# Altium footprint library TQFP.PcbLib: 51 footprints (part 3 of 4)
Each footprint in its own frame and in the unit in brackets; x right, y up, seen from the top. Pads: shape width x height; smd on the part's side, far side on the other; paste and mask are expansions set on the pad; w line width, h text height; cw(c..) or ccw(c..) is an arc to the next point about the centre after c.
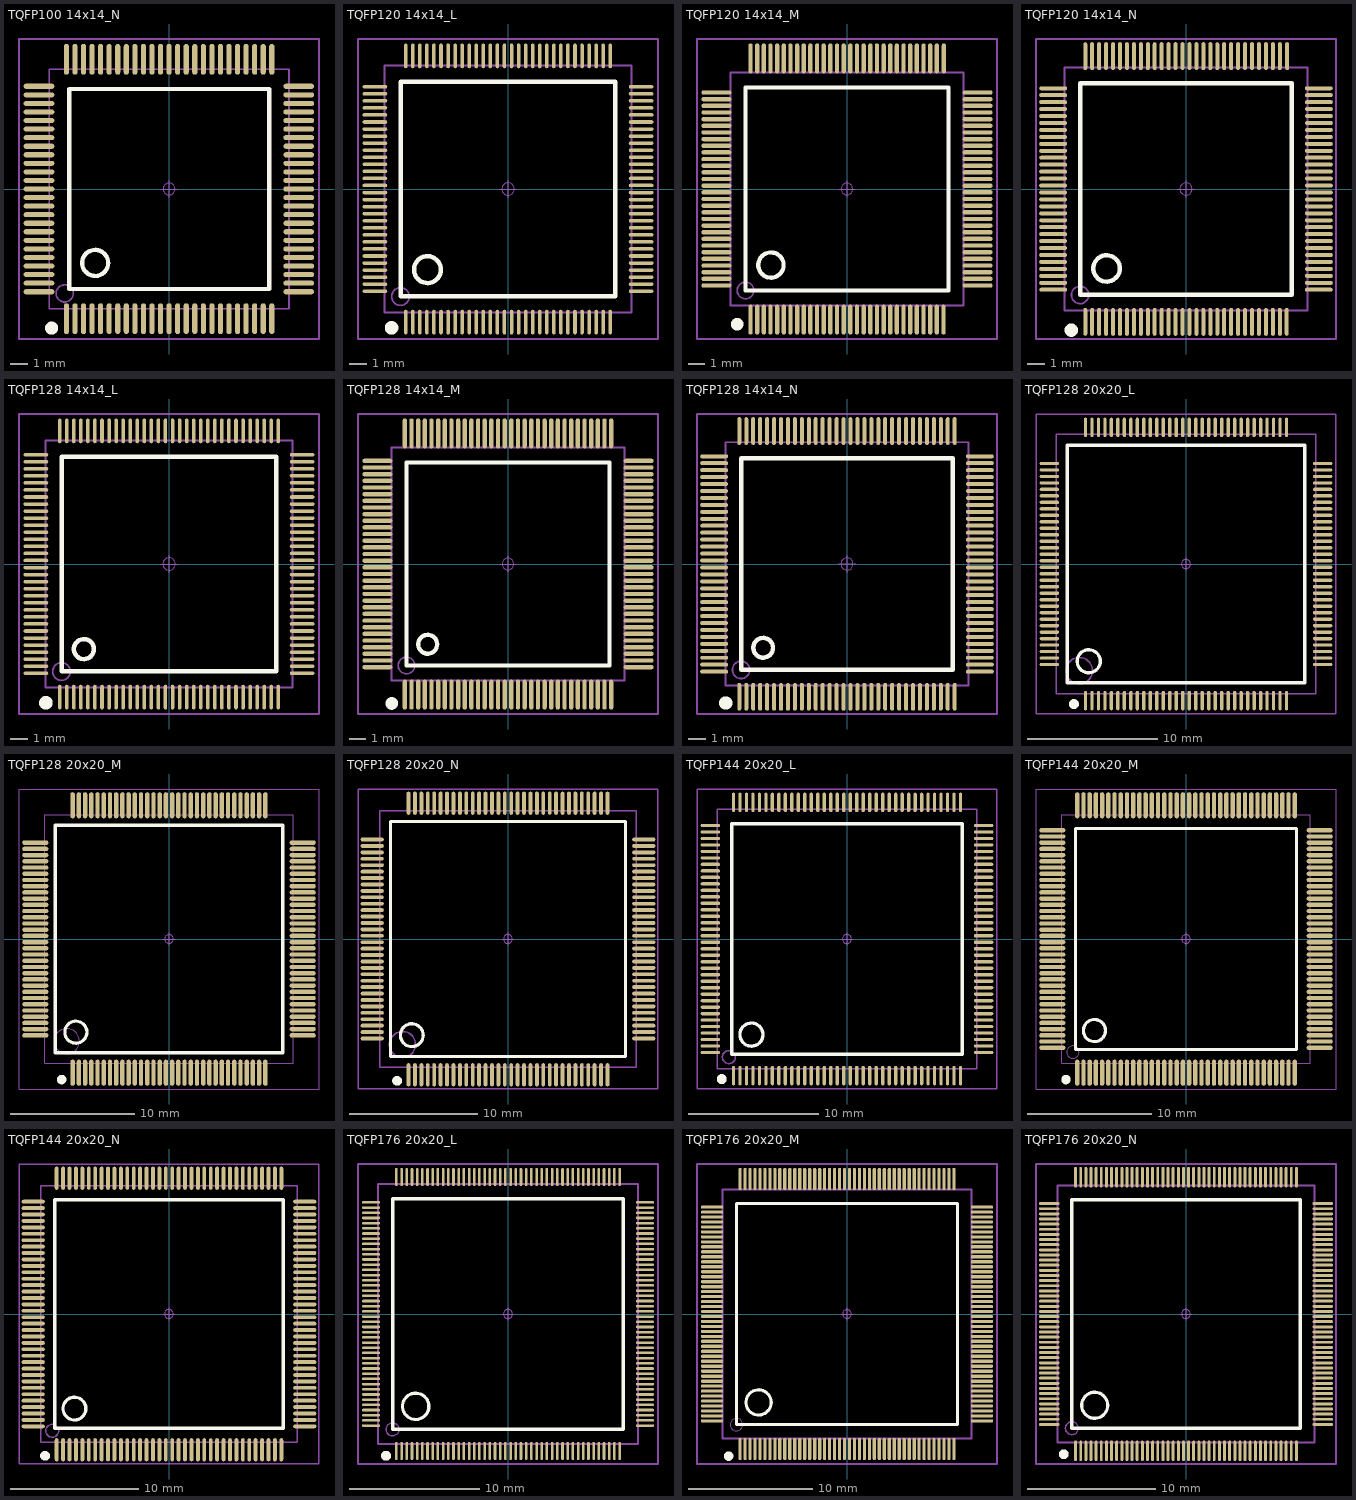
[diagram p2: the footprints below, top view; thin cyan lines are the x and y axes]

## TQFP100 14x14_N [mm] "100脚，体宽：14x14mm, 脚距：0.5mm"
pads (100):
  oval 0.3x1.8 smd: 1(-5.995,-7.575) 2(-5.495,-7.575) 3(-4.995,-7.575) 4(-4.495,-7.575) 5(-3.995,-7.575) 6(-3.495,-7.575) 7(-2.995,-7.575) 8(-2.495,-7.575) 9(-1.995,-7.575) 10(-1.495,-7.575) 11(-0.995,-7.575) 12(-0.495,-7.575) 13(0.005,-7.575) 14(0.505,-7.575) 15(1.005,-7.575) 16(1.505,-7.575) 17(2.005,-7.575) 18(2.505,-7.575) 19(3.005,-7.575) 20(3.505,-7.575) 21(4.005,-7.575) 22(4.505,-7.575) 23(5.005,-7.575) 24(5.505,-7.575) 25(6.005,-7.575) 51(6.005,7.575) 52(5.505,7.575) 53(5.005,7.575) 54(4.505,7.575) 55(4.005,7.575) 56(3.505,7.575) 57(3.005,7.575) 58(2.505,7.575) 59(2.005,7.575) 60(1.505,7.575) 61(1.005,7.575) 62(0.505,7.575) 63(0.005,7.575) 64(-0.495,7.575) 65(-0.995,7.575) 66(-1.495,7.575) 67(-1.995,7.575) 68(-2.495,7.575) 69(-2.995,7.575) 70(-3.495,7.575) 71(-3.995,7.575) 72(-4.495,7.575) 73(-4.995,7.575) 74(-5.495,7.575) 75(-5.995,7.575)
  oval 1.8x0.3 smd: 26(7.58,-6) 27(7.58,-5.5) 28(7.58,-5) 29(7.58,-4.5) 30(7.58,-4) 31(7.58,-3.5) 32(7.58,-3) 33(7.58,-2.5) 34(7.58,-2) 35(7.58,-1.5) 36(7.58,-1) 37(7.58,-0.5) 38(7.58,0) 39(7.58,0.5) 40(7.58,1) 41(7.58,1.5) 42(7.58,2) 43(7.58,2.5) 44(7.58,3) 45(7.58,3.5) 46(7.58,4) 47(7.58,4.5) 48(7.58,5) 49(7.58,5.5) 50(7.58,6) 76(-7.595,6) 77(-7.595,5.5) 78(-7.595,5) 79(-7.595,4.5) 80(-7.595,4) 81(-7.595,3.5) 82(-7.595,3) 83(-7.595,2.5) 84(-7.595,2) 85(-7.595,1.5) 86(-7.595,1) 87(-7.595,0.5) 88(-7.595,0) 89(-7.595,-0.5) 90(-7.595,-1) 91(-7.595,-1.5) 92(-7.595,-2) 93(-7.595,-2.5) 94(-7.595,-3) 95(-7.595,-3.5) 96(-7.595,-4) 97(-7.595,-4.5) 98(-7.595,-5) 99(-7.595,-5.5) 100(-7.595,-6)
Top Overlay:
  circle w0.254: c-4.313,-4.318 r0.762
  circle w0.508: c-6.858,-8.128 r0.127
  lines w0.254: -5.837,-5.842 5.847,-5.842 5.847,5.842 -5.837,5.842 -5.837,-5.842
Mechanical 13:
  circle w0.1: c-6.095,-6.1 r0.5
  lines w0.1: -6.995,-7 7.005,-7 7.005,7 -6.995,7 -6.995,-7
Mechanical 15:
  circle w0.05: c0.005,0 r0.35
  lines w0.05: -0.495,0 0.505,0 ; 0.005,-0.5 0.005,0.5
  lines w0.1: -8.763,-8.763 8.763,-8.763 8.763,8.763 -8.763,8.763 -8.763,-8.763
3D body: height 1.05, standoff -0.01, extent -7.997,-8.002 8.007,8.002

## TQFP120 14x14_L [mm] "120脚，体宽：14x14mm, 脚距：0.4mm"
pads (120):
  oval 0.2x1.4 smd: 1(-5.8,-7.549) 2(-5.4,-7.549) 3(-5,-7.549) 4(-4.6,-7.549) 5(-4.2,-7.549) 6(-3.8,-7.549) 7(-3.4,-7.549) 8(-3,-7.549) 9(-2.6,-7.549) 10(-2.2,-7.549) 11(-1.8,-7.549) 12(-1.4,-7.549) 13(-1,-7.549) 14(-0.6,-7.549) 15(-0.2,-7.549) 16(0.2,-7.549) 17(0.6,-7.549) 18(1,-7.549) 19(1.4,-7.549) 20(1.8,-7.549) 21(2.2,-7.549) 22(2.6,-7.549) 23(3,-7.549) 24(3.4,-7.549) 25(3.8,-7.549) 26(4.2,-7.549) 27(4.6,-7.549) 28(5,-7.549) 29(5.4,-7.549) 30(5.8,-7.549) 61(5.8,7.549) 62(5.4,7.549) 63(5,7.549) 64(4.6,7.549) 65(4.2,7.549) 66(3.8,7.549) 67(3.4,7.549) 68(3,7.549) 69(2.6,7.549) 70(2.2,7.549) 71(1.8,7.549) 72(1.4,7.549) 73(1,7.549) 74(0.6,7.549) 75(0.2,7.549) 76(-0.2,7.549) 77(-0.6,7.549) 78(-1,7.549) 79(-1.4,7.549) 80(-1.8,7.549) 81(-2.2,7.549) 82(-2.6,7.549) 83(-3,7.549) 84(-3.4,7.549) 85(-3.8,7.549) 86(-4.2,7.549) 87(-4.6,7.549) 88(-5,7.549) 89(-5.4,7.549) 90(-5.8,7.549)
  oval 1.4x0.2 smd: 31(7.549,-5.8) 32(7.549,-5.4) 33(7.549,-5) 34(7.549,-4.6) 35(7.549,-4.2) 36(7.549,-3.8) 37(7.549,-3.4) 38(7.549,-3) 39(7.549,-2.6) 40(7.549,-2.2) 41(7.549,-1.8) 42(7.549,-1.4) 43(7.549,-1) 44(7.549,-0.6) 45(7.549,-0.2) 46(7.549,0.2) 47(7.549,0.6) 48(7.549,1) 49(7.549,1.4) 50(7.549,1.8) 51(7.549,2.2) 52(7.549,2.6) 53(7.549,3) 54(7.549,3.4) 55(7.549,3.8) 56(7.549,4.2) 57(7.549,4.6) 58(7.549,5) 59(7.549,5.4) 60(7.549,5.8) 91(-7.549,5.8) 92(-7.549,5.4) 93(-7.549,5) 94(-7.549,4.6) 95(-7.549,4.2) 96(-7.549,3.8) 97(-7.549,3.4) 98(-7.549,3) 99(-7.549,2.6) 100(-7.549,2.2) 101(-7.549,1.8) 102(-7.549,1.4) 103(-7.549,1) 104(-7.549,0.6) 105(-7.549,0.2) 106(-7.549,-0.2) 107(-7.549,-0.6) 108(-7.549,-1) 109(-7.549,-1.4) 110(-7.549,-1.8) 111(-7.549,-2.2) 112(-7.549,-2.6) 113(-7.549,-3) 114(-7.549,-3.4) 115(-7.549,-3.8) 116(-7.549,-4.2) 117(-7.549,-4.6) 118(-7.549,-5) 119(-7.549,-5.4) 120(-7.549,-5.8)
Top Overlay:
  circle w0.254: c-4.572,-4.572 r0.762
  circle w0.508: c-6.604,-7.874 r0.127
  lines w0.254: -6.096,-6.096 -6.096,6.096 6.096,6.096 6.096,-6.096 -6.096,-6.096
Mechanical 13:
  circle w0.1: c-6.1,-6.1 r0.5
  lines w0.1: -7,-7 -7,7 7,7 7,-7 -7,-7
Mechanical 15:
  circle w0.05: c0,0 r0.35
  lines w0.05: -0.5,0 0.5,0 ; 0,-0.5 0,0.5
  lines w0.1: -8.509,-8.509 -8.509,8.509 8.509,8.509 8.509,-8.509 -8.509,-8.509
3D body: height 1.05, standoff -0.01, extent -8.002,-8.002 8.002,8.002

## TQFP120 14x14_M [mm] "120脚，体宽：14x14mm, 脚距：0.4mm"
pads (120):
  oval 0.26x1.8 smd: 1(-5.8,-7.854) 2(-5.4,-7.854) 3(-5,-7.854) 4(-4.6,-7.854) 5(-4.2,-7.854) 6(-3.8,-7.854) 7(-3.4,-7.854) 8(-3,-7.854) 9(-2.6,-7.854) 10(-2.2,-7.854) 11(-1.8,-7.854) 12(-1.4,-7.854) 13(-1,-7.854) 14(-0.6,-7.854) 15(-0.2,-7.854) 16(0.2,-7.854) 17(0.6,-7.854) 18(1,-7.854) 19(1.4,-7.854) 20(1.8,-7.854) 21(2.2,-7.854) 22(2.6,-7.854) 23(3,-7.854) 24(3.4,-7.854) 25(3.8,-7.854) 26(4.2,-7.854) 27(4.6,-7.854) 28(5,-7.854) 29(5.4,-7.854) 30(5.8,-7.854) 61(5.825,7.854) 62(5.4,7.854) 63(5,7.854) 64(4.6,7.854) 65(4.2,7.854) 66(3.8,7.854) 67(3.4,7.854) 68(3,7.854) 69(2.6,7.854) 70(2.2,7.854) 71(1.8,7.854) 72(1.4,7.854) 73(1,7.854) 74(0.6,7.854) 75(0.2,7.854) 76(-0.2,7.854) 77(-0.6,7.854) 78(-1,7.854) 79(-1.4,7.854) 80(-1.8,7.854) 81(-2.2,7.854) 82(-2.6,7.854) 83(-3,7.854) 84(-3.4,7.854) 85(-3.8,7.854) 86(-4.2,7.854) 87(-4.6,7.854) 88(-5,7.854) 89(-5.4,7.854) 90(-5.8,7.854)
  oval 1.8x0.26 smd: 31(7.854,-5.8) 32(7.854,-5.4) 33(7.854,-5) 34(7.854,-4.6) 35(7.854,-4.2) 36(7.854,-3.8) 37(7.854,-3.4) 38(7.854,-3) 39(7.854,-2.6) 40(7.854,-2.2) 41(7.854,-1.8) 42(7.854,-1.4) 43(7.854,-1) 44(7.854,-0.6) 45(7.854,-0.2) 46(7.854,0.2) 47(7.854,0.6) 48(7.854,1) 49(7.854,1.4) 50(7.854,1.8) 51(7.854,2.2) 52(7.854,2.6) 53(7.854,3) 54(7.854,3.4) 55(7.854,3.8) 56(7.854,4.2) 57(7.854,4.6) 58(7.854,5) 59(7.854,5.4) 60(7.854,5.8) 91(-7.854,5.8) 92(-7.854,5.4) 93(-7.854,5) 94(-7.854,4.6) 95(-7.854,4.2) 96(-7.854,3.8) 97(-7.854,3.4) 98(-7.854,3) 99(-7.854,2.6) 100(-7.854,2.2) 101(-7.854,1.8) 102(-7.854,1.4) 103(-7.854,1) 104(-7.854,0.6) 105(-7.854,0.2) 106(-7.854,-0.2) 107(-7.854,-0.6) 108(-7.854,-1) 109(-7.854,-1.4) 110(-7.854,-1.8) 111(-7.854,-2.2) 112(-7.854,-2.6) 113(-7.854,-3) 114(-7.854,-3.4) 115(-7.854,-3.8) 116(-7.854,-4.2) 117(-7.854,-4.6) 118(-7.854,-5) 119(-7.854,-5.4) 120(-7.854,-5.8)
Top Overlay:
  circle w0.508: c-6.604,-8.128 r0.127
  circle w0.254: c-4.572,-4.572 r0.762
  lines w0.254: -6.096,-6.096 6.096,-6.096 6.096,6.096 -6.096,6.096 -6.096,-6.096
Mechanical 13:
  circle w0.1: c-6.1,-6.1 r0.5
  lines w0.1: -7,-7 7,-7 7,7 -7,7 -7,-7
Mechanical 15:
  circle w0.05: c0,0 r0.35
  lines w0.05: -0.5,0 0.5,0 ; 0,-0.5 0,0.5
  lines w0.1: -9.017,-9.017 9.017,-9.017 9.017,9.017 -9.017,9.017 -9.017,-9.017
3D body: height 1.05, standoff -0.01, extent -8.002,-8.002 8.002,8.002

## TQFP120 14x14_N [mm] "120脚，体宽：14x14mm, 脚距：0.4mm"
pads (120):
  oval 0.23x1.6 smd: 1(-5.8,-7.651) 2(-5.4,-7.651) 3(-5,-7.651) 4(-4.6,-7.651) 5(-4.2,-7.651) 6(-3.8,-7.651) 7(-3.4,-7.651) 8(-3,-7.651) 9(-2.6,-7.651) 10(-2.2,-7.651) 11(-1.8,-7.651) 12(-1.4,-7.651) 13(-1,-7.651) 14(-0.6,-7.651) 15(-0.2,-7.651) 16(0.2,-7.651) 17(0.6,-7.651) 18(1,-7.651) 19(1.4,-7.651) 20(1.8,-7.651) 21(2.2,-7.651) 22(2.6,-7.651) 23(3,-7.651) 24(3.4,-7.651) 25(3.8,-7.651) 26(4.2,-7.651) 27(4.6,-7.651) 28(5,-7.651) 29(5.4,-7.651) 30(5.8,-7.651) 61(5.825,7.651) 62(5.4,7.651) 63(5,7.651) 64(4.6,7.651) 65(4.2,7.651) 66(3.8,7.651) 67(3.4,7.651) 68(3,7.651) 69(2.6,7.651) 70(2.2,7.651) 71(1.8,7.651) 72(1.4,7.651) 73(1,7.651) 74(0.6,7.651) 75(0.2,7.651) 76(-0.2,7.651) 77(-0.6,7.651) 78(-1,7.651) 79(-1.4,7.651) 80(-1.8,7.651) 81(-2.2,7.651) 82(-2.6,7.651) 83(-3,7.651) 84(-3.4,7.651) 85(-3.8,7.651) 86(-4.2,7.651) 87(-4.6,7.651) 88(-5,7.651) 89(-5.4,7.651) 90(-5.8,7.651)
  oval 1.6x0.23 smd: 31(7.651,-5.8) 32(7.651,-5.4) 33(7.651,-5) 34(7.651,-4.6) 35(7.651,-4.2) 36(7.651,-3.8) 37(7.651,-3.4) 38(7.651,-3) 39(7.651,-2.6) 40(7.651,-2.2) 41(7.651,-1.8) 42(7.651,-1.4) 43(7.651,-1) 44(7.651,-0.6) 45(7.651,-0.2) 46(7.651,0.2) 47(7.651,0.6) 48(7.651,1) 49(7.651,1.4) 50(7.651,1.8) 51(7.651,2.2) 52(7.651,2.6) 53(7.651,3) 54(7.651,3.4) 55(7.651,3.8) 56(7.651,4.2) 57(7.651,4.6) 58(7.651,5) 59(7.651,5.4) 60(7.651,5.8) 91(-7.651,5.8) 92(-7.651,5.4) 93(-7.651,5) 94(-7.651,4.6) 95(-7.651,4.2) 96(-7.651,3.8) 97(-7.651,3.4) 98(-7.651,3) 99(-7.651,2.6) 100(-7.651,2.2) 101(-7.651,1.8) 102(-7.651,1.4) 103(-7.651,1) 104(-7.651,0.6) 105(-7.651,0.2) 106(-7.651,-0.2) 107(-7.651,-0.6) 108(-7.651,-1) 109(-7.651,-1.4) 110(-7.651,-1.8) 111(-7.651,-2.2) 112(-7.651,-2.6) 113(-7.651,-3) 114(-7.651,-3.4) 115(-7.651,-3.8) 116(-7.651,-4.2) 117(-7.651,-4.6) 118(-7.651,-5) 119(-7.651,-5.4) 120(-7.651,-5.8)
Top Overlay:
  circle w0.254: c-4.572,-4.572 r0.762
  circle w0.508: c-6.604,-8.128 r0.127
  lines w0.254: -6.096,-6.096 -6.096,6.096 6.096,6.096 6.096,-6.096 -6.096,-6.096
Mechanical 13:
  circle w0.1: c-6.1,-6.1 r0.5
  lines w0.1: -7,-7 -7,7 7,7 7,-7 -7,-7
Mechanical 15:
  circle w0.05: c0,0 r0.35
  lines w0.05: -0.5,0 0.5,0 ; 0,-0.5 0,0.5
  lines w0.1: -8.636,-8.636 -8.636,8.636 8.636,8.636 8.636,-8.636 -8.636,-8.636
3D body: height 1.05, standoff -0.01, extent -8.002,-8.002 8.002,8.002

## TQFP128 14x14_L [mm] "128脚，体宽：14x14mm, 脚距：0.4mm"
pads (128):
  oval 0.2x1.4 smd: 1(-6.2,-7.549) 2(-5.8,-7.549) 3(-5.4,-7.549) 4(-5,-7.549) 5(-4.6,-7.549) 6(-4.2,-7.549) 7(-3.8,-7.549) 8(-3.4,-7.549) 9(-3,-7.549) 10(-2.6,-7.549) 11(-2.2,-7.549) 12(-1.8,-7.549) 13(-1.4,-7.549) 14(-1,-7.549) 15(-0.6,-7.549) 16(-0.2,-7.549) 17(0.2,-7.549) 18(0.6,-7.549) 19(1,-7.549) 20(1.4,-7.549) 21(1.8,-7.549) 22(2.2,-7.549) 23(2.6,-7.549) 24(3,-7.549) 25(3.4,-7.549) 26(3.8,-7.549) 27(4.2,-7.549) 28(4.6,-7.549) 29(5,-7.549) 30(5.4,-7.549) 31(5.8,-7.549) 32(6.2,-7.549) 65(6.2,7.549) 66(5.8,7.549) 67(5.4,7.549) 68(5,7.549) 69(4.6,7.549) 70(4.2,7.549) 71(3.8,7.549) 72(3.4,7.549) 73(3,7.549) 74(2.6,7.549) 75(2.2,7.549) 76(1.8,7.549) 77(1.4,7.549) 78(1,7.549) 79(0.6,7.549) 80(0.2,7.549) 81(-0.2,7.549) 82(-0.6,7.549) 83(-1,7.549) 84(-1.4,7.549) 85(-1.8,7.549) 86(-2.2,7.549) 87(-2.6,7.549) 88(-3,7.549) 89(-3.4,7.549) 90(-3.8,7.549) 91(-4.2,7.549) 92(-4.6,7.549) 93(-5,7.549) 94(-5.4,7.549) 95(-5.8,7.549) 96(-6.2,7.549)
  oval 1.4x0.2 smd: 33(7.549,-6.2) 34(7.549,-5.8) 35(7.549,-5.4) 36(7.549,-5) 37(7.549,-4.6) 38(7.549,-4.2) 39(7.549,-3.8) 40(7.549,-3.4) 41(7.549,-3) 42(7.549,-2.6) 43(7.549,-2.2) 44(7.549,-1.8) 45(7.549,-1.4) 46(7.549,-1) 47(7.549,-0.6) 48(7.549,-0.2) 49(7.549,0.2) 50(7.549,0.6) 51(7.549,1) 52(7.549,1.4) 53(7.549,1.8) 54(7.549,2.2) 55(7.549,2.6) 56(7.549,3) 57(7.549,3.4) 58(7.549,3.8) 59(7.549,4.2) 60(7.549,4.6) 61(7.549,5) 62(7.549,5.4) 63(7.549,5.8) 64(7.549,6.2) 97(-7.549,6.2) 98(-7.549,5.8) 99(-7.549,5.4) 100(-7.549,5) 101(-7.549,4.6) 102(-7.549,4.2) 103(-7.549,3.8) 104(-7.549,3.4) 105(-7.549,3) 106(-7.549,2.6) 107(-7.549,2.2) 108(-7.549,1.8) 109(-7.549,1.4) 110(-7.549,1) 111(-7.549,0.6) 112(-7.549,0.2) 113(-7.549,-0.2) 114(-7.549,-0.6) 115(-7.549,-1) 116(-7.549,-1.4) 117(-7.549,-1.8) 118(-7.549,-2.2) 119(-7.549,-2.6) 120(-7.549,-3) 121(-7.549,-3.4) 122(-7.549,-3.8) 123(-7.549,-4.2) 124(-7.549,-4.6) 125(-7.549,-5) 126(-7.549,-5.4) 127(-7.549,-5.8) 128(-7.549,-6.2)
Top Overlay:
  circle w0.254: c-4.826,-4.826 r0.568
  circle w0.508: c-6.985,-7.874 r0.127
  lines w0.254: -6.096,-6.096 -6.096,6.096 6.096,6.096 6.096,-6.096 -6.096,-6.096
Mechanical 13:
  circle w0.1: c-6.1,-6.1 r0.5
  lines w0.1: -7,-7 7,-7 7,7 -7,7 -7,-7
Mechanical 15:
  circle w0.05: c0,0 r0.35
  lines w0.05: -0.5,0 0.5,0 ; 0,-0.5 0,0.5
  lines w0.1: -8.509,-8.509 -8.509,8.509 8.509,8.509 8.509,-8.509 -8.509,-8.509
3D body: height 1.05, standoff -0.01, extent -8.002,-8.002 8.002,8.002

## TQFP128 14x14_M [mm] "128脚，体宽：14x14mm, 脚距：0.4mm"
pads (128):
  oval 0.26x1.8 smd: 1(-6.2,-7.854) 2(-5.8,-7.854) 3(-5.4,-7.854) 4(-5,-7.854) 5(-4.6,-7.854) 6(-4.2,-7.854) 7(-3.8,-7.854) 8(-3.4,-7.854) 9(-3,-7.854) 10(-2.6,-7.854) 11(-2.2,-7.854) 12(-1.8,-7.854) 13(-1.4,-7.854) 14(-1,-7.854) 15(-0.6,-7.854) 16(-0.2,-7.854) 17(0.2,-7.854) 18(0.6,-7.854) 19(1,-7.854) 20(1.4,-7.854) 21(1.8,-7.854) 22(2.2,-7.854) 23(2.6,-7.854) 24(3,-7.854) 25(3.4,-7.854) 26(3.8,-7.854) 27(4.2,-7.854) 28(4.6,-7.854) 29(5,-7.854) 30(5.4,-7.854) 31(5.8,-7.854) 32(6.2,-7.854) 65(6.2,7.854) 66(5.8,7.854) 67(5.4,7.854) 68(5,7.854) 69(4.6,7.854) 70(4.2,7.854) 71(3.8,7.854) 72(3.4,7.854) 73(3,7.854) 74(2.6,7.854) 75(2.2,7.854) 76(1.8,7.854) 77(1.4,7.854) 78(1,7.854) 79(0.6,7.854) 80(0.2,7.854) 81(-0.2,7.854) 82(-0.6,7.854) 83(-1,7.854) 84(-1.4,7.854) 85(-1.8,7.854) 86(-2.2,7.854) 87(-2.6,7.854) 88(-3,7.854) 89(-3.4,7.854) 90(-3.8,7.854) 91(-4.2,7.854) 92(-4.6,7.854) 93(-5,7.854) 94(-5.4,7.854) 95(-5.8,7.854) 96(-6.2,7.854)
  oval 1.8x0.26 smd: 33(7.854,-6.2) 34(7.854,-5.8) 35(7.854,-5.4) 36(7.854,-5) 37(7.854,-4.6) 38(7.854,-4.2) 39(7.854,-3.8) 40(7.854,-3.4) 41(7.854,-3) 42(7.854,-2.6) 43(7.854,-2.2) 44(7.854,-1.8) 45(7.854,-1.4) 46(7.854,-1) 47(7.854,-0.6) 48(7.854,-0.2) 49(7.854,0.2) 50(7.854,0.6) 51(7.854,1) 52(7.854,1.4) 53(7.854,1.8) 54(7.854,2.2) 55(7.854,2.6) 56(7.854,3) 57(7.854,3.4) 58(7.854,3.8) 59(7.854,4.2) 60(7.854,4.6) 61(7.854,5) 62(7.854,5.4) 63(7.854,5.8) 64(7.854,6.2) 97(-7.854,6.2) 98(-7.854,5.8) 99(-7.854,5.4) 100(-7.854,5) 101(-7.854,4.6) 102(-7.854,4.2) 103(-7.854,3.8) 104(-7.854,3.4) 105(-7.854,3) 106(-7.854,2.6) 107(-7.854,2.2) 108(-7.854,1.8) 109(-7.854,1.4) 110(-7.854,1) 111(-7.854,0.6) 112(-7.854,0.2) 113(-7.854,-0.2) 114(-7.854,-0.6) 115(-7.854,-1) 116(-7.854,-1.4) 117(-7.854,-1.8) 118(-7.854,-2.2) 119(-7.854,-2.6) 120(-7.854,-3) 121(-7.854,-3.4) 122(-7.854,-3.8) 123(-7.854,-4.2) 124(-7.854,-4.6) 125(-7.854,-5) 126(-7.854,-5.4) 127(-7.854,-5.8) 128(-7.854,-6.2)
Top Overlay:
  circle w0.254: c-4.826,-4.826 r0.568
  circle w0.508: c-6.985,-8.382 r0.127
  lines w0.254: -6.096,-6.096 -6.096,6.096 6.096,6.096 6.096,-6.096 -6.096,-6.096
Mechanical 13:
  circle w0.1: c-6.1,-6.1 r0.5
  lines w0.1: -7,-7 7,-7 7,7 -7,7 -7,-7
Mechanical 15:
  circle w0.05: c0,0 r0.35
  lines w0.05: -0.5,0 0.5,0 ; 0,-0.5 0,0.5
  lines w0.1: -9.017,-9.017 -9.017,9.017 9.017,9.017 9.017,-9.017 -9.017,-9.017
3D body: height 1.05, standoff -0.01, extent -8.002,-8.002 8.002,8.002

## TQFP128 14x14_N [mm] "128脚，体宽：14x14mm, 脚距：0.4mm"
pads (128):
  oval 0.23x1.6 smd: 1(-6.2,-7.648) 2(-5.8,-7.648) 3(-5.4,-7.648) 4(-5,-7.648) 5(-4.6,-7.648) 6(-4.2,-7.648) 7(-3.8,-7.648) 8(-3.4,-7.648) 9(-3,-7.648) 10(-2.6,-7.648) 11(-2.2,-7.648) 12(-1.8,-7.648) 13(-1.4,-7.648) 14(-1,-7.648) 15(-0.6,-7.648) 16(-0.2,-7.648) 17(0.2,-7.648) 18(0.6,-7.648) 19(1,-7.648) 20(1.4,-7.648) 21(1.8,-7.648) 22(2.2,-7.648) 23(2.6,-7.648) 24(3,-7.648) 25(3.4,-7.648) 26(3.8,-7.648) 27(4.2,-7.648) 28(4.6,-7.648) 29(5,-7.648) 30(5.4,-7.648) 31(5.8,-7.648) 32(6.2,-7.648) 65(6.2,7.653) 66(5.8,7.653) 67(5.4,7.653) 68(5,7.653) 69(4.6,7.653) 70(4.2,7.653) 71(3.8,7.653) 72(3.4,7.653) 73(3,7.653) 74(2.6,7.653) 75(2.2,7.653) 76(1.8,7.653) 77(1.4,7.653) 78(1,7.653) 79(0.6,7.653) 80(0.2,7.653) 81(-0.2,7.653) 82(-0.6,7.653) 83(-1,7.653) 84(-1.4,7.653) 85(-1.8,7.653) 86(-2.2,7.653) 87(-2.6,7.653) 88(-3,7.653) 89(-3.4,7.653) 90(-3.8,7.653) 91(-4.2,7.653) 92(-4.6,7.653) 93(-5,7.653) 94(-5.4,7.653) 95(-5.8,7.653) 96(-6.2,7.653)
  oval 1.6x0.23 smd: 33(7.651,-6.198) 34(7.651,-5.798) 35(7.651,-5.398) 36(7.651,-4.998) 37(7.651,-4.598) 38(7.651,-4.198) 39(7.651,-3.798) 40(7.651,-3.398) 41(7.651,-2.998) 42(7.651,-2.598) 43(7.651,-2.198) 44(7.651,-1.798) 45(7.651,-1.398) 46(7.651,-0.998) 47(7.651,-0.598) 48(7.651,-0.198) 49(7.651,0.202) 50(7.651,0.602) 51(7.651,1.002) 52(7.651,1.402) 53(7.651,1.802) 54(7.651,2.202) 55(7.651,2.602) 56(7.651,3.002) 57(7.651,3.402) 58(7.651,3.802) 59(7.651,4.202) 60(7.651,4.602) 61(7.651,5.002) 62(7.651,5.402) 63(7.651,5.802) 64(7.651,6.202) 97(-7.651,6.202) 98(-7.651,5.802) 99(-7.651,5.402) 100(-7.651,5.002) 101(-7.651,4.602) 102(-7.651,4.202) 103(-7.651,3.802) 104(-7.651,3.402) 105(-7.651,3.002) 106(-7.651,2.602) 107(-7.651,2.202) 108(-7.651,1.802) 109(-7.651,1.402) 110(-7.651,1.002) 111(-7.651,0.602) 112(-7.651,0.202) 113(-7.651,-0.198) 114(-7.651,-0.598) 115(-7.651,-0.998) 116(-7.651,-1.398) 117(-7.651,-1.798) 118(-7.651,-2.198) 119(-7.651,-2.598) 120(-7.651,-2.998) 121(-7.651,-3.398) 122(-7.651,-3.798) 123(-7.651,-4.198) 124(-7.651,-4.598) 125(-7.651,-4.998) 126(-7.651,-5.398) 127(-7.651,-5.798) 128(-7.651,-6.198)
Top Overlay:
  circle w0.254: c-4.826,-4.824 r0.568
  circle w0.508: c-6.985,-8.001 r0.127
  lines w0.254: -6.096,-6.094 -6.096,6.098 6.096,6.098 6.096,-6.094 -6.096,-6.094
Mechanical 13:
  circle w0.1: c-6.1,-6.098 r0.5
  lines w0.1: -7,-6.998 7,-6.998 7,7.002 -7,7.002 -7,-6.998
Mechanical 15:
  circle w0.05: c0,0.002 r0.35
  lines w0.05: -0.5,0.002 0.5,0.002 ; 0,-0.498 0,0.502
  lines w0.1: -8.636,-8.636 -8.636,8.636 8.636,8.636 8.636,-8.636 -8.636,-8.636
3D body: height 1.05, standoff -0.01, extent -8.002,-8 8.002,8.005

## TQFP128 20x20_L [mm] "128脚，体宽：20x20mm, 脚距：0.5mm"
pads (128):
  oval 0.25x1.5 smd: 1(-7.75,-10.525) 2(-7.25,-10.525) 3(-6.75,-10.525) 4(-6.25,-10.525) 5(-5.75,-10.525) 6(-5.25,-10.525) 7(-4.75,-10.525) 8(-4.25,-10.525) 9(-3.75,-10.525) 10(-3.25,-10.525) 11(-2.75,-10.525) 12(-2.25,-10.525) 13(-1.75,-10.525) 14(-1.25,-10.525) 15(-0.75,-10.525) 16(-0.25,-10.525) 17(0.25,-10.525) 18(0.75,-10.525) 19(1.25,-10.525) 20(1.75,-10.525) 21(2.25,-10.525) 22(2.75,-10.525) 23(3.25,-10.525) 24(3.75,-10.525) 25(4.25,-10.525) 26(4.75,-10.525) 27(5.25,-10.525) 28(5.75,-10.525) 29(6.25,-10.525) 30(6.75,-10.525) 31(7.25,-10.525) 32(7.75,-10.525) 65(7.75,10.525) 66(7.25,10.525) 67(6.75,10.525) 68(6.25,10.525) 69(5.75,10.525) 70(5.25,10.525) 71(4.75,10.525) 72(4.25,10.525) 73(3.75,10.525) 74(3.25,10.525) 75(2.75,10.525) 76(2.25,10.525) 77(1.75,10.525) 78(1.25,10.525) 79(0.75,10.525) 80(0.25,10.525) 81(-0.25,10.525) 82(-0.75,10.525) 83(-1.25,10.525) 84(-1.75,10.525) 85(-2.25,10.525) 86(-2.75,10.525) 87(-3.25,10.525) 88(-3.75,10.525) 89(-4.25,10.525) 90(-4.75,10.525) 91(-5.25,10.525) 92(-5.75,10.525) 93(-6.25,10.525) 94(-6.75,10.525) 95(-7.25,10.525) 96(-7.75,10.525)
  oval 1.5x0.25 smd: 33(10.525,-7.75) 34(10.525,-7.25) 35(10.525,-6.75) 36(10.525,-6.25) 37(10.525,-5.75) 38(10.525,-5.25) 39(10.525,-4.75) 40(10.525,-4.25) 41(10.525,-3.75) 42(10.525,-3.25) 43(10.525,-2.75) 44(10.525,-2.25) 45(10.525,-1.75) 46(10.525,-1.25) 47(10.525,-0.75) 48(10.525,-0.25) 49(10.525,0.25) 50(10.525,0.75) 51(10.525,1.25) 52(10.525,1.75) 53(10.525,2.25) 54(10.525,2.75) 55(10.525,3.25) 56(10.525,3.75) 57(10.525,4.25) 58(10.525,4.75) 59(10.525,5.25) 60(10.525,5.75) 61(10.525,6.25) 62(10.525,6.75) 63(10.525,7.25) 64(10.525,7.75) 97(-10.525,7.75) 98(-10.525,7.25) 99(-10.525,6.75) 100(-10.525,6.25) 101(-10.525,5.75) 102(-10.525,5.25) 103(-10.525,4.75) 104(-10.525,4.25) 105(-10.525,3.75) 106(-10.525,3.25) 107(-10.525,2.75) 108(-10.525,2.25) 109(-10.525,1.75) 110(-10.525,1.25) 111(-10.525,0.75) 112(-10.525,0.25) 113(-10.525,-0.25) 114(-10.525,-0.75) 115(-10.525,-1.25) 116(-10.525,-1.75) 117(-10.525,-2.25) 118(-10.525,-2.75) 119(-10.525,-3.25) 120(-10.525,-3.75) 121(-10.525,-4.25) 122(-10.525,-4.75) 123(-10.525,-5.25) 124(-10.525,-5.75) 125(-10.525,-6.25) 126(-10.525,-6.75) 127(-10.525,-7.25) 128(-10.525,-7.75)
Top Overlay:
  circle w0.254: c-7.493,-7.493 r0.889
  circle w0.508: c-8.636,-10.795 r0.127
  lines w0.254: -9.144,-9.144 -9.144,9.144 9.144,9.144 9.144,-9.144 -9.144,-9.144
Mechanical 13:
  circle w0.1: c-8.222,-8.222 r1.016
  lines w0.1: -10,-10 10,-10 10,10 -10,10 -10,-10
Mechanical 15:
  circle w0.05: c0,0 r0.35
  lines w0.05: -0.5,0 0.5,0 ; 0,-0.5 0,0.5
  lines w0.1: -11.557,-11.557 -11.557,11.557 11.557,11.557 11.557,-11.557 -11.557,-11.557
3D body: height 1.05, standoff -0.01, extent -11.002,-11.002 11.002,11.002

## TQFP128 20x20_M [mm] "128脚，体宽：20x20mm, 脚距：0.5mm"
pads (128):
  oval 0.35x2.1 smd: 1(-7.75,-10.754) 2(-7.25,-10.754) 3(-6.75,-10.754) 4(-6.25,-10.754) 5(-5.75,-10.754) 6(-5.25,-10.754) 7(-4.75,-10.754) 8(-4.25,-10.754) 9(-3.75,-10.754) 10(-3.25,-10.754) 11(-2.75,-10.754) 12(-2.25,-10.754) 13(-1.75,-10.754) 14(-1.25,-10.754) 15(-0.75,-10.754) 16(-0.25,-10.754) 17(0.25,-10.754) 18(0.75,-10.754) 19(1.25,-10.754) 20(1.75,-10.754) 21(2.25,-10.754) 22(2.75,-10.754) 23(3.25,-10.754) 24(3.75,-10.754) 25(4.25,-10.754) 26(4.75,-10.754) 27(5.25,-10.754) 28(5.75,-10.754) 29(6.25,-10.754) 30(6.75,-10.754) 31(7.25,-10.754) 32(7.75,-10.754) 65(7.75,10.754) 66(7.25,10.754) 67(6.75,10.754) 68(6.25,10.754) 69(5.75,10.754) 70(5.25,10.754) 71(4.75,10.754) 72(4.25,10.754) 73(3.75,10.754) 74(3.25,10.754) 75(2.75,10.754) 76(2.25,10.754) 77(1.75,10.754) 78(1.25,10.754) 79(0.75,10.754) 80(0.25,10.754) 81(-0.25,10.754) 82(-0.75,10.754) 83(-1.25,10.754) 84(-1.75,10.754) 85(-2.25,10.754) 86(-2.75,10.754) 87(-3.25,10.754) 88(-3.75,10.754) 89(-4.25,10.754) 90(-4.75,10.754) 91(-5.25,10.754) 92(-5.75,10.754) 93(-6.25,10.754) 94(-6.75,10.754) 95(-7.25,10.754) 96(-7.75,10.754)
  oval 2.1x0.35 smd: 33(10.754,-7.75) 34(10.754,-7.25) 35(10.754,-6.75) 36(10.754,-6.25) 37(10.754,-5.75) 38(10.754,-5.25) 39(10.754,-4.75) 40(10.754,-4.25) 41(10.754,-3.75) 42(10.754,-3.25) 43(10.754,-2.75) 44(10.754,-2.25) 45(10.754,-1.75) 46(10.754,-1.25) 47(10.754,-0.75) 48(10.754,-0.25) 49(10.754,0.25) 50(10.754,0.75) 51(10.754,1.25) 52(10.754,1.75) 53(10.754,2.25) 54(10.754,2.75) 55(10.754,3.25) 56(10.754,3.75) 57(10.754,4.25) 58(10.754,4.75) 59(10.754,5.25) 60(10.754,5.75) 61(10.754,6.25) 62(10.754,6.75) 63(10.754,7.25) 64(10.754,7.75) 97(-10.754,7.75) 98(-10.754,7.25) 99(-10.754,6.75) 100(-10.754,6.25) 101(-10.754,5.75) 102(-10.754,5.25) 103(-10.754,4.75) 104(-10.754,4.25) 105(-10.754,3.75) 106(-10.754,3.25) 107(-10.754,2.75) 108(-10.754,2.25) 109(-10.754,1.75) 110(-10.754,1.25) 111(-10.754,0.75) 112(-10.754,0.25) 113(-10.754,-0.25) 114(-10.754,-0.75) 115(-10.754,-1.25) 116(-10.754,-1.75) 117(-10.754,-2.25) 118(-10.754,-2.75) 119(-10.754,-3.25) 120(-10.754,-3.75) 121(-10.754,-4.25) 122(-10.754,-4.75) 123(-10.754,-5.25) 124(-10.754,-5.75) 125(-10.754,-6.25) 126(-10.754,-6.75) 127(-10.754,-7.25) 128(-10.754,-7.75)
Top Overlay:
  circle w0.508: c-8.636,-11.303 r0.127
  circle w0.254: c-7.493,-7.493 r0.889
  lines w0.254: -9.144,-9.144 9.144,-9.144 9.144,9.144 -9.144,9.144 -9.144,-9.144
Mechanical 13:
  circle w0.1: c-8.222,-8.222 r1.016
  lines w0.1: -10,-10 -10,10 10,10 10,-10 -10,-10
Mechanical 15:
  circle w0.05: c0,0 r0.35
  lines w0.05: -0.5,0 0.5,0 ; 0,-0.5 0,0.5
  lines w0.1: -12.065,-12.065 12.065,-12.065 12.065,12.065 -12.065,12.065 -12.065,-12.065
3D body: height 1.05, standoff -0.01, extent -11.002,-11.002 11.002,11.002

## TQFP128 20x20_N [mm] "128脚，体宽：20x20mm, 脚距：0.5mm"
pads (128):
  oval 0.3x1.8 smd: 1(-7.75,-10.576) 2(-7.25,-10.576) 3(-6.75,-10.576) 4(-6.25,-10.576) 5(-5.75,-10.576) 6(-5.25,-10.576) 7(-4.75,-10.576) 8(-4.25,-10.576) 9(-3.75,-10.576) 10(-3.25,-10.576) 11(-2.75,-10.576) 12(-2.25,-10.576) 13(-1.75,-10.576) 14(-1.25,-10.576) 15(-0.75,-10.576) 16(-0.25,-10.576) 17(0.25,-10.576) 18(0.75,-10.576) 19(1.25,-10.576) 20(1.75,-10.576) 21(2.25,-10.576) 22(2.75,-10.576) 23(3.25,-10.576) 24(3.75,-10.576) 25(4.25,-10.576) 26(4.75,-10.576) 27(5.25,-10.576) 28(5.75,-10.576) 29(6.25,-10.576) 30(6.75,-10.576) 31(7.25,-10.576) 32(7.75,-10.576) 65(7.75,10.576) 66(7.25,10.576) 67(6.75,10.576) 68(6.25,10.576) 69(5.75,10.576) 70(5.25,10.576) 71(4.75,10.576) 72(4.25,10.576) 73(3.75,10.576) 74(3.25,10.576) 75(2.75,10.576) 76(2.25,10.576) 77(1.75,10.576) 78(1.25,10.576) 79(0.75,10.576) 80(0.25,10.576) 81(-0.25,10.576) 82(-0.75,10.576) 83(-1.25,10.576) 84(-1.75,10.576) 85(-2.25,10.576) 86(-2.75,10.576) 87(-3.25,10.576) 88(-3.75,10.576) 89(-4.25,10.576) 90(-4.75,10.576) 91(-5.25,10.576) 92(-5.75,10.576) 93(-6.25,10.576) 94(-6.75,10.576) 95(-7.25,10.576) 96(-7.75,10.576)
  oval 1.8x0.3 smd: 33(10.576,-7.75) 34(10.576,-7.25) 35(10.576,-6.75) 36(10.576,-6.25) 37(10.576,-5.75) 38(10.576,-5.25) 39(10.576,-4.75) 40(10.576,-4.25) 41(10.576,-3.75) 42(10.576,-3.25) 43(10.576,-2.75) 44(10.576,-2.25) 45(10.576,-1.75) 46(10.576,-1.25) 47(10.576,-0.75) 48(10.576,-0.25) 49(10.576,0.25) 50(10.576,0.75) 51(10.576,1.25) 52(10.576,1.75) 53(10.576,2.25) 54(10.576,2.75) 55(10.576,3.25) 56(10.576,3.75) 57(10.576,4.25) 58(10.576,4.75) 59(10.576,5.25) 60(10.576,5.75) 61(10.576,6.25) 62(10.576,6.75) 63(10.576,7.25) 64(10.576,7.75) 97(-10.576,7.75) 98(-10.576,7.25) 99(-10.576,6.75) 100(-10.576,6.25) 101(-10.576,5.75) 102(-10.576,5.25) 103(-10.576,4.75) 104(-10.576,4.25) 105(-10.576,3.75) 106(-10.576,3.25) 107(-10.576,2.75) 108(-10.576,2.25) 109(-10.576,1.75) 110(-10.576,1.25) 111(-10.576,0.75) 112(-10.576,0.25) 113(-10.576,-0.25) 114(-10.576,-0.75) 115(-10.576,-1.25) 116(-10.576,-1.75) 117(-10.576,-2.25) 118(-10.576,-2.75) 119(-10.576,-3.25) 120(-10.576,-3.75) 121(-10.576,-4.25) 122(-10.576,-4.75) 123(-10.576,-5.25) 124(-10.576,-5.75) 125(-10.576,-6.25) 126(-10.576,-6.75) 127(-10.576,-7.25) 128(-10.576,-7.75)
Top Overlay:
  circle w0.254: c-7.493,-7.493 r0.889
  circle w0.508: c-8.636,-11.049 r0.127
  lines w0.254: -9.144,-9.144 9.144,-9.144 9.144,9.144 -9.144,9.144 -9.144,-9.144
Mechanical 13:
  circle w0.1: c-8.222,-8.222 r1.016
  lines w0.1: -10,-10 -10,10 10,10 10,-10 -10,-10
Mechanical 15:
  circle w0.05: c0,0 r0.35
  lines w0.05: -0.5,0 0.5,0 ; 0,-0.5 0,0.5
  lines w0.1: -11.684,-11.684 11.684,-11.684 11.684,11.684 -11.684,11.684 -11.684,-11.684
3D body: height 1.05, standoff -0.01, extent -11.002,-11.002 11.002,11.002

## TQFP144 20x20_L [mm] "144脚，体宽：20x20mm, 脚距：0.5mm"
height 1.6
pads (144):
  oval 0.25x1.5 smd: 1(-8.75,-10.525) 2(-8.25,-10.525) 3(-7.75,-10.525) 4(-7.25,-10.525) 5(-6.75,-10.525) 6(-6.25,-10.525) 7(-5.75,-10.525) 8(-5.25,-10.525) 9(-4.75,-10.525) 10(-4.25,-10.525) 11(-3.75,-10.525) 12(-3.25,-10.525) 13(-2.75,-10.525) 14(-2.25,-10.525) 15(-1.75,-10.525) 16(-1.25,-10.525) 17(-0.75,-10.525) 18(-0.25,-10.525) 19(0.25,-10.525) 20(0.75,-10.525) 21(1.25,-10.525) 22(1.75,-10.525) 23(2.25,-10.525) 24(2.75,-10.525) 25(3.25,-10.525) 26(3.75,-10.525) 27(4.25,-10.525) 28(4.75,-10.525) 29(5.25,-10.525) 30(5.75,-10.525) 31(6.25,-10.525) 32(6.75,-10.525) 33(7.25,-10.525) 34(7.75,-10.525) 35(8.25,-10.525) 36(8.75,-10.525) 73(8.75,10.525) 74(8.25,10.525) 75(7.75,10.525) 76(7.25,10.525) 77(6.75,10.525) 78(6.25,10.525) 79(5.75,10.525) 80(5.25,10.525) 81(4.75,10.525) 82(4.25,10.525) 83(3.75,10.525) 84(3.25,10.525) 85(2.75,10.525) 86(2.25,10.525) 87(1.75,10.525) 88(1.25,10.525) 89(0.75,10.525) 90(0.25,10.525) 91(-0.25,10.525) 92(-0.75,10.525) 93(-1.25,10.525) 94(-1.75,10.525) 95(-2.25,10.525) 96(-2.75,10.525) 97(-3.25,10.525) 98(-3.75,10.525) 99(-4.25,10.525) 100(-4.75,10.525) 101(-5.25,10.525) 102(-5.75,10.525) 103(-6.25,10.525) 104(-6.75,10.525) 105(-7.25,10.525) 106(-7.75,10.525) 107(-8.25,10.525) 108(-8.75,10.525)
  oval 1.5x0.25 smd: 37(10.525,-8.75) 38(10.525,-8.25) 39(10.525,-7.75) 40(10.525,-7.25) 41(10.525,-6.75) 42(10.525,-6.25) 43(10.525,-5.75) 44(10.525,-5.25) 45(10.525,-4.75) 46(10.525,-4.25) 47(10.525,-3.75) 48(10.525,-3.25) 49(10.525,-2.75) 50(10.525,-2.25) 51(10.525,-1.75) 52(10.525,-1.25) 53(10.525,-0.75) 54(10.525,-0.25) 55(10.525,0.25) 56(10.525,0.75) 57(10.525,1.25) 58(10.525,1.75) 59(10.525,2.25) 60(10.525,2.75) 61(10.525,3.25) 62(10.525,3.75) 63(10.525,4.25) 64(10.525,4.75) 65(10.525,5.25) 66(10.525,5.75) 67(10.525,6.25) 68(10.525,6.75) 69(10.525,7.25) 70(10.525,7.75) 71(10.525,8.25) 72(10.525,8.75) 109(-10.525,8.75) 110(-10.525,8.25) 111(-10.525,7.75) 112(-10.525,7.25) 113(-10.525,6.75) 114(-10.525,6.25) 115(-10.525,5.75) 116(-10.525,5.25) 117(-10.525,4.75) 118(-10.525,4.25) 119(-10.525,3.75) 120(-10.525,3.25) 121(-10.525,2.75) 122(-10.525,2.25) 123(-10.525,1.75) 124(-10.525,1.25) 125(-10.525,0.75) 126(-10.525,0.25) 127(-10.525,-0.25) 128(-10.525,-0.75) 129(-10.525,-1.25) 130(-10.525,-1.75) 131(-10.525,-2.25) 132(-10.525,-2.75) 133(-10.525,-3.25) 134(-10.525,-3.75) 135(-10.525,-4.25) 136(-10.525,-4.75) 137(-10.525,-5.25) 138(-10.525,-5.75) 139(-10.525,-6.25) 140(-10.525,-6.75) 141(-10.525,-7.25) 142(-10.525,-7.75) 143(-10.525,-8.25) 144(-10.525,-8.75)
Top Overlay:
  circle w0.508: c-9.652,-10.795 r0.127
  circle w0.254: c-7.366,-7.366 r0.889
  lines w0.254: -8.89,-8.89 8.89,-8.89 8.89,8.89 -8.89,8.89 -8.89,-8.89
Mechanical 13:
  circle w0.1: c-9.1,-9.1 r0.5
  lines w0.1: -10,-10 10,-10 10,10 -10,10 -10,-10
Mechanical 15:
  circle w0.05: c0,0 r0.35
  lines w0.05: -0.5,0 0.5,0 ; 0,-0.5 0,0.5
  lines w0.1: -11.557,-11.557 11.557,-11.557 11.557,11.557 -11.557,11.557 -11.557,-11.557
3D body: height 1.05, standoff -0.01, extent -11.002,-11.002 11.002,11.002

## TQFP144 20x20_M [mm] "144脚，体宽：20x20mm, 脚距：0.5mm"
height 1.6
pads (144):
  oval 0.35x2.1 smd: 1(-8.75,-10.754) 2(-8.25,-10.754) 3(-7.75,-10.754) 4(-7.25,-10.754) 5(-6.75,-10.754) 6(-6.25,-10.754) 7(-5.75,-10.754) 8(-5.25,-10.754) 9(-4.75,-10.754) 10(-4.25,-10.754) 11(-3.75,-10.754) 12(-3.25,-10.754) 13(-2.75,-10.754) 14(-2.25,-10.754) 15(-1.75,-10.754) 16(-1.25,-10.754) 17(-0.75,-10.754) 18(-0.25,-10.754) 19(0.25,-10.754) 20(0.75,-10.754) 21(1.25,-10.754) 22(1.75,-10.754) 23(2.25,-10.754) 24(2.75,-10.754) 25(3.25,-10.754) 26(3.75,-10.754) 27(4.25,-10.754) 28(4.75,-10.754) 29(5.25,-10.754) 30(5.75,-10.754) 31(6.25,-10.754) 32(6.75,-10.754) 33(7.25,-10.754) 34(7.75,-10.754) 35(8.25,-10.754) 36(8.75,-10.754) 73(8.75,10.754) 74(8.25,10.754) 75(7.75,10.754) 76(7.25,10.754) 77(6.75,10.754) 78(6.25,10.754) 79(5.75,10.754) 80(5.25,10.754) 81(4.75,10.754) 82(4.25,10.754) 83(3.75,10.754) 84(3.25,10.754) 85(2.75,10.754) 86(2.25,10.754) 87(1.75,10.754) 88(1.25,10.754) 89(0.75,10.754) 90(0.25,10.754) 91(-0.25,10.754) 92(-0.75,10.754) 93(-1.25,10.754) 94(-1.75,10.754) 95(-2.25,10.754) 96(-2.75,10.754) 97(-3.25,10.754) 98(-3.75,10.754) 99(-4.25,10.754) 100(-4.75,10.754) 101(-5.25,10.754) 102(-5.75,10.754) 103(-6.25,10.754) 104(-6.75,10.754) 105(-7.25,10.754) 106(-7.75,10.754) 107(-8.25,10.754) 108(-8.75,10.754)
  oval 2.1x0.35 smd: 37(10.754,-8.75) 38(10.754,-8.25) 39(10.754,-7.75) 40(10.754,-7.25) 41(10.754,-6.75) 42(10.754,-6.25) 43(10.754,-5.75) 44(10.754,-5.25) 45(10.754,-4.75) 46(10.754,-4.25) 47(10.754,-3.75) 48(10.754,-3.25) 49(10.754,-2.75) 50(10.754,-2.25) 51(10.754,-1.75) 52(10.754,-1.25) 53(10.754,-0.75) 54(10.754,-0.25) 55(10.754,0.25) 56(10.754,0.75) 57(10.754,1.25) 58(10.754,1.75) 59(10.754,2.25) 60(10.754,2.75) 61(10.754,3.25) 62(10.754,3.75) 63(10.754,4.25) 64(10.754,4.75) 65(10.754,5.25) 66(10.754,5.75) 67(10.754,6.25) 68(10.754,6.75) 69(10.754,7.25) 70(10.754,7.75) 71(10.754,8.25) 72(10.754,8.75) 109(-10.754,8.75) 110(-10.754,8.25) 111(-10.754,7.75) 112(-10.754,7.25) 113(-10.754,6.75) 114(-10.754,6.25) 115(-10.754,5.75) 116(-10.754,5.25) 117(-10.754,4.75) 118(-10.754,4.25) 119(-10.754,3.75) 120(-10.754,3.25) 121(-10.754,2.75) 122(-10.754,2.25) 123(-10.754,1.75) 124(-10.754,1.25) 125(-10.754,0.75) 126(-10.754,0.25) 127(-10.754,-0.25) 128(-10.754,-0.75) 129(-10.754,-1.25) 130(-10.754,-1.75) 131(-10.754,-2.25) 132(-10.754,-2.75) 133(-10.754,-3.25) 134(-10.754,-3.75) 135(-10.754,-4.25) 136(-10.754,-4.75) 137(-10.754,-5.25) 138(-10.754,-5.75) 139(-10.754,-6.25) 140(-10.754,-6.75) 141(-10.754,-7.25) 142(-10.754,-7.75) 143(-10.754,-8.25) 144(-10.754,-8.75)
Top Overlay:
  circle w0.508: c-9.652,-11.303 r0.127
  circle w0.254: c-7.366,-7.366 r0.889
  lines w0.254: -8.89,-8.89 8.89,-8.89 8.89,8.89 -8.89,8.89 -8.89,-8.89
Mechanical 13:
  circle w0.1: c-9.1,-9.1 r0.5
  lines w0.1: -10,-10 10,-10 10,10 -10,10 -10,-10
Mechanical 15:
  circle w0.05: c0,0 r0.35
  lines w0.05: -0.5,0 0.5,0 ; 0,-0.5 0,0.5
  lines w0.1: -12.065,-12.065 12.065,-12.065 12.065,12.065 -12.065,12.065 -12.065,-12.065
3D body: height 1.05, standoff -0.01, extent -11.002,-11.002 11.002,11.002

## TQFP144 20x20_N [mm] "144脚，体宽：20x20mm, 脚距：0.5mm"
height 1.6
pads (144):
  oval 0.3x1.8 smd: 1(-8.75,-10.576) 2(-8.25,-10.576) 3(-7.75,-10.576) 4(-7.25,-10.576) 5(-6.75,-10.576) 6(-6.25,-10.576) 7(-5.75,-10.576) 8(-5.25,-10.576) 9(-4.75,-10.576) 10(-4.25,-10.576) 11(-3.75,-10.576) 12(-3.25,-10.576) 13(-2.75,-10.576) 14(-2.25,-10.576) 15(-1.75,-10.576) 16(-1.25,-10.576) 17(-0.75,-10.576) 18(-0.25,-10.576) 19(0.25,-10.576) 20(0.75,-10.576) 21(1.25,-10.576) 22(1.75,-10.576) 23(2.25,-10.576) 24(2.75,-10.576) 25(3.25,-10.576) 26(3.75,-10.576) 27(4.25,-10.576) 28(4.75,-10.576) 29(5.25,-10.576) 30(5.75,-10.576) 31(6.25,-10.576) 32(6.75,-10.576) 33(7.25,-10.576) 34(7.75,-10.576) 35(8.25,-10.576) 36(8.75,-10.576) 73(8.75,10.576) 74(8.25,10.576) 75(7.75,10.576) 76(7.25,10.576) 77(6.75,10.576) 78(6.25,10.576) 79(5.75,10.576) 80(5.25,10.576) 81(4.75,10.576) 82(4.25,10.576) 83(3.75,10.576) 84(3.25,10.576) 85(2.75,10.576) 86(2.25,10.576) 87(1.75,10.576) 88(1.25,10.576) 89(0.75,10.576) 90(0.25,10.576) 91(-0.25,10.576) 92(-0.75,10.576) 93(-1.25,10.576) 94(-1.75,10.576) 95(-2.25,10.576) 96(-2.75,10.576) 97(-3.25,10.576) 98(-3.75,10.576) 99(-4.25,10.576) 100(-4.75,10.576) 101(-5.25,10.576) 102(-5.75,10.576) 103(-6.25,10.576) 104(-6.75,10.576) 105(-7.25,10.576) 106(-7.75,10.576) 107(-8.25,10.576) 108(-8.75,10.576)
  oval 1.8x0.3 smd: 37(10.576,-8.75) 38(10.576,-8.25) 39(10.576,-7.75) 40(10.576,-7.25) 41(10.576,-6.75) 42(10.576,-6.25) 43(10.576,-5.75) 44(10.576,-5.25) 45(10.576,-4.75) 46(10.576,-4.25) 47(10.576,-3.75) 48(10.576,-3.25) 49(10.576,-2.75) 50(10.576,-2.25) 51(10.576,-1.75) 52(10.576,-1.25) 53(10.576,-0.75) 54(10.576,-0.25) 55(10.576,0.25) 56(10.576,0.75) 57(10.576,1.25) 58(10.576,1.75) 59(10.576,2.25) 60(10.576,2.75) 61(10.576,3.25) 62(10.576,3.75) 63(10.576,4.25) 64(10.576,4.75) 65(10.576,5.25) 66(10.576,5.75) 67(10.576,6.25) 68(10.576,6.75) 69(10.576,7.25) 70(10.576,7.75) 71(10.576,8.25) 72(10.576,8.75) 109(-10.576,8.75) 110(-10.576,8.25) 111(-10.576,7.75) 112(-10.576,7.25) 113(-10.576,6.75) 114(-10.576,6.25) 115(-10.576,5.75) 116(-10.576,5.25) 117(-10.576,4.75) 118(-10.576,4.25) 119(-10.576,3.75) 120(-10.576,3.25) 121(-10.576,2.75) 122(-10.576,2.25) 123(-10.576,1.75) 124(-10.576,1.25) 125(-10.576,0.75) 126(-10.576,0.25) 127(-10.576,-0.25) 128(-10.576,-0.75) 129(-10.576,-1.25) 130(-10.576,-1.75) 131(-10.576,-2.25) 132(-10.576,-2.75) 133(-10.576,-3.25) 134(-10.576,-3.75) 135(-10.576,-4.25) 136(-10.576,-4.75) 137(-10.576,-5.25) 138(-10.576,-5.75) 139(-10.576,-6.25) 140(-10.576,-6.75) 141(-10.576,-7.25) 142(-10.576,-7.75) 143(-10.576,-8.25) 144(-10.576,-8.75)
Top Overlay:
  circle w0.254: c-7.366,-7.366 r0.889
  circle w0.508: c-9.652,-11.049 r0.127
  lines w0.254: -8.89,-8.89 -8.89,8.89 8.89,8.89 8.89,-8.89 -8.89,-8.89
Mechanical 13:
  circle w0.1: c-9.1,-9.1 r0.5
  lines w0.1: -10,-10 -10,10 10,10 10,-10 -10,-10
Mechanical 15:
  circle w0.05: c0,0 r0.35
  lines w0.05: -0.5,0 0.5,0 ; 0,-0.5 0,0.5
  lines w0.1: -11.684,-11.684 -11.684,11.684 11.684,11.684 11.684,-11.684 -11.684,-11.684
3D body: height 1.05, standoff -0.01, extent -11.002,-11.002 11.002,11.002

## TQFP176 20x20_L [mm] "176脚，体宽：20x20mm, 脚距：0.4mm"
height 1.6
pads (176):
  oval 0.2x1.4 smd: 1(-8.6,-10.552) 2(-8.2,-10.552) 3(-7.8,-10.552) 4(-7.4,-10.552) 5(-7,-10.552) 6(-6.6,-10.552) 7(-6.2,-10.552) 8(-5.8,-10.552) 9(-5.4,-10.552) 10(-5,-10.552) 11(-4.6,-10.552) 12(-4.2,-10.552) 13(-3.8,-10.552) 14(-3.4,-10.552) 15(-3,-10.552) 16(-2.6,-10.552) 17(-2.2,-10.552) 18(-1.8,-10.552) 19(-1.4,-10.552) 20(-1,-10.552) 21(-0.6,-10.552) 22(-0.2,-10.552) 23(0.2,-10.552) 24(0.6,-10.552) 25(1,-10.552) 26(1.4,-10.552) 27(1.8,-10.552) 28(2.2,-10.552) 29(2.6,-10.552) 30(3,-10.552) 31(3.4,-10.552) 32(3.8,-10.552) 33(4.2,-10.552) 34(4.6,-10.552) 35(5,-10.552) 36(5.4,-10.552) 37(5.8,-10.552) 38(6.2,-10.552) 39(6.6,-10.552) 40(7,-10.552) 41(7.4,-10.552) 42(7.8,-10.552) 43(8.2,-10.552) 44(8.6,-10.552) 89(8.6,10.552) 90(8.2,10.552) 91(7.8,10.552) 92(7.4,10.552) 93(7,10.552) 94(6.6,10.552) 95(6.2,10.552) 96(5.8,10.552) 97(5.4,10.552) 98(5,10.552) 99(4.6,10.552) 100(4.2,10.552) 101(3.8,10.552) 102(3.4,10.552) 103(3,10.552) 104(2.6,10.552) 105(2.2,10.552) 106(1.8,10.552) 107(1.4,10.552) 108(1,10.552) 109(0.6,10.552) 110(0.2,10.552) 111(-0.2,10.552) 112(-0.6,10.552) 113(-1,10.552) 114(-1.4,10.552) 115(-1.8,10.552) 116(-2.2,10.552) 117(-2.6,10.552) 118(-3,10.552) 119(-3.4,10.552) 120(-3.8,10.552) 121(-4.2,10.552) 122(-4.6,10.552) 123(-5,10.552) 124(-5.4,10.552) 125(-5.8,10.552) 126(-6.2,10.552) 127(-6.6,10.552) 128(-7,10.552) 129(-7.4,10.552) 130(-7.8,10.552) 131(-8.2,10.552) 132(-8.6,10.552)
  oval 1.4x0.2 smd: 45(10.552,-8.6) 46(10.552,-8.2) 47(10.552,-7.8) 48(10.552,-7.4) 49(10.552,-7) 50(10.552,-6.6) 51(10.552,-6.2) 52(10.552,-5.8) 53(10.552,-5.4) 54(10.552,-5) 55(10.552,-4.6) 56(10.552,-4.2) 57(10.552,-3.8) 58(10.552,-3.4) 59(10.552,-3) 60(10.552,-2.6) 61(10.552,-2.2) 62(10.552,-1.8) 63(10.552,-1.4) 64(10.552,-1) 65(10.552,-0.6) 66(10.552,-0.2) 67(10.552,0.2) 68(10.552,0.6) 69(10.552,1) 70(10.552,1.4) 71(10.552,1.8) 72(10.552,2.2) 73(10.552,2.6) 74(10.552,3) 75(10.552,3.4) 76(10.552,3.8) 77(10.552,4.2) 78(10.552,4.6) 79(10.552,5) 80(10.552,5.4) 81(10.552,5.8) 82(10.552,6.2) 83(10.552,6.6) 84(10.552,7) 85(10.552,7.4) 86(10.552,7.8) 87(10.552,8.2) 88(10.552,8.6) 133(-10.552,8.6) 134(-10.552,8.2) 135(-10.552,7.8) 136(-10.552,7.4) 137(-10.552,7) 138(-10.552,6.6) 139(-10.552,6.2) 140(-10.552,5.8) 141(-10.552,5.4) 142(-10.552,5) 143(-10.552,4.6) 144(-10.552,4.2) 145(-10.552,3.8) 146(-10.552,3.4) 147(-10.552,3) 148(-10.552,2.6) 149(-10.552,2.2) 150(-10.552,1.8) 151(-10.552,1.4) 152(-10.552,1) 153(-10.552,0.6) 154(-10.552,0.2) 155(-10.552,-0.2) 156(-10.552,-0.6) 157(-10.552,-1) 158(-10.552,-1.4) 159(-10.552,-1.8) 160(-10.552,-2.2) 161(-10.552,-2.6) 162(-10.552,-3) 163(-10.552,-3.4) 164(-10.552,-3.8) 165(-10.552,-4.2) 166(-10.552,-4.6) 167(-10.552,-5) 168(-10.552,-5.4) 169(-10.552,-5.8) 170(-10.552,-6.2) 171(-10.552,-6.6) 172(-10.552,-7) 173(-10.552,-7.4) 174(-10.552,-7.8) 175(-10.552,-8.2) 176(-10.552,-8.6)
Top Overlay:
  circle w0.508: c-9.398,-10.922 r0.127
  circle w0.254: c-7.112,-7.112 r1.016
  lines w0.254: -8.89,-8.89 8.89,-8.89 8.89,8.89 -8.89,8.89 -8.89,-8.89
Mechanical 13:
  circle w0.1: c-8.894,-8.894 r0.5
  lines w0.15: -10,-10 -10,10 10,10 10,-10 -10,-10
Mechanical 15:
  circle w0.05: c0,0 r0.35
  lines w0.05: -0.5,0 0.5,0 ; 0,-0.5 0,0.5
  lines w0.15: -11.557,-11.557 11.557,-11.557 11.557,11.557 -11.557,11.557 -11.557,-11.557
3D body: height 1.05, standoff -0.01, extent -11.002,-11.002 11.002,11.002

## TQFP176 20x20_M [mm] "176脚，体宽：20x20mm, 脚距：0.4mm"
height 1.6
pads (176):
  oval 0.26x1.8 smd: 1(-8.6,-10.857) 2(-8.2,-10.857) 3(-7.8,-10.857) 4(-7.4,-10.857) 5(-7,-10.857) 6(-6.6,-10.857) 7(-6.2,-10.857) 8(-5.8,-10.857) 9(-5.4,-10.857) 10(-5,-10.857) 11(-4.6,-10.857) 12(-4.2,-10.857) 13(-3.8,-10.857) 14(-3.4,-10.857) 15(-3,-10.857) 16(-2.6,-10.857) 17(-2.2,-10.857) 18(-1.8,-10.857) 19(-1.4,-10.857) 20(-1,-10.857) 21(-0.6,-10.857) 22(-0.2,-10.857) 23(0.2,-10.857) 24(0.6,-10.857) 25(1,-10.857) 26(1.4,-10.857) 27(1.8,-10.857) 28(2.2,-10.857) 29(2.6,-10.857) 30(3,-10.857) 31(3.4,-10.857) 32(3.8,-10.857) 33(4.2,-10.857) 34(4.6,-10.857) 35(5,-10.857) 36(5.4,-10.857) 37(5.8,-10.857) 38(6.2,-10.857) 39(6.6,-10.857) 40(7,-10.857) 41(7.4,-10.857) 42(7.8,-10.857) 43(8.2,-10.857) 44(8.6,-10.857) 89(8.6,10.857) 90(8.2,10.857) 91(7.8,10.857) 92(7.4,10.857) 93(7,10.857) 94(6.6,10.857) 95(6.2,10.857) 96(5.8,10.857) 97(5.4,10.857) 98(5,10.857) 99(4.6,10.857) 100(4.2,10.857) 101(3.8,10.857) 102(3.4,10.857) 103(3,10.857) 104(2.6,10.857) 105(2.2,10.857) 106(1.8,10.857) 107(1.4,10.857) 108(1,10.857) 109(0.6,10.857) 110(0.2,10.857) 111(-0.2,10.857) 112(-0.6,10.857) 113(-1,10.857) 114(-1.4,10.857) 115(-1.8,10.857) 116(-2.2,10.857) 117(-2.6,10.857) 118(-3,10.857) 119(-3.4,10.857) 120(-3.8,10.857) 121(-4.2,10.857) 122(-4.6,10.857) 123(-5,10.857) 124(-5.4,10.857) 125(-5.8,10.857) 126(-6.2,10.857) 127(-6.6,10.857) 128(-7,10.857) 129(-7.4,10.857) 130(-7.8,10.857) 131(-8.2,10.857) 132(-8.6,10.857)
  oval 1.8x0.26 smd: 45(10.857,-8.6) 46(10.857,-8.2) 47(10.857,-7.8) 48(10.857,-7.4) 49(10.857,-7) 50(10.857,-6.6) 51(10.857,-6.2) 52(10.857,-5.8) 53(10.857,-5.4) 54(10.857,-5) 55(10.857,-4.6) 56(10.857,-4.2) 57(10.857,-3.8) 58(10.857,-3.4) 59(10.857,-3) 60(10.857,-2.6) 61(10.857,-2.2) 62(10.857,-1.8) 63(10.857,-1.4) 64(10.857,-1) 65(10.857,-0.6) 66(10.857,-0.2) 67(10.857,0.2) 68(10.857,0.6) 69(10.857,1) 70(10.857,1.4) 71(10.857,1.8) 72(10.857,2.2) 73(10.857,2.6) 74(10.857,3) 75(10.857,3.4) 76(10.857,3.8) 77(10.857,4.2) 78(10.857,4.6) 79(10.857,5) 80(10.857,5.4) 81(10.857,5.8) 82(10.857,6.2) 83(10.857,6.6) 84(10.857,7) 85(10.857,7.4) 86(10.857,7.8) 87(10.857,8.2) 88(10.857,8.6) 133(-10.857,8.6) 134(-10.857,8.2) 135(-10.857,7.8) 136(-10.857,7.4) 137(-10.857,7) 138(-10.857,6.6) 139(-10.857,6.2) 140(-10.857,5.8) 141(-10.857,5.4) 142(-10.857,5) 143(-10.857,4.6) 144(-10.857,4.2) 145(-10.857,3.8) 146(-10.857,3.4) 147(-10.857,3) 148(-10.857,2.6) 149(-10.857,2.2) 150(-10.857,1.8) 151(-10.857,1.4) 152(-10.857,1) 153(-10.857,0.6) 154(-10.857,0.2) 155(-10.857,-0.2) 156(-10.857,-0.6) 157(-10.857,-1) 158(-10.857,-1.4) 159(-10.857,-1.8) 160(-10.857,-2.2) 161(-10.857,-2.6) 162(-10.857,-3) 163(-10.857,-3.4) 164(-10.857,-3.8) 165(-10.857,-4.2) 166(-10.857,-4.6) 167(-10.857,-5) 168(-10.857,-5.4) 169(-10.857,-5.8) 170(-10.857,-6.2) 171(-10.857,-6.6) 172(-10.857,-7) 173(-10.857,-7.4) 174(-10.857,-7.8) 175(-10.857,-8.2) 176(-10.857,-8.6)
Top Overlay:
  circle w0.508: c-9.525,-11.43 r0.127
  circle w0.254: c-7.112,-7.112 r1.016
  lines w0.254: -8.89,-8.89 -8.89,8.89 8.89,8.89 8.89,-8.89 -8.89,-8.89
Mechanical 13:
  circle w0.1: c-8.894,-8.894 r0.5
  lines w0.15: -10,-10 10,-10 10,10 -10,10 -10,-10
Mechanical 15:
  circle w0.05: c0,0 r0.35
  lines w0.05: -0.5,0 0.5,0 ; 0,-0.5 0,0.5
  lines w0.15: -12.065,-12.065 -12.065,12.065 12.065,12.065 12.065,-12.065 -12.065,-12.065
3D body: height 1.05, standoff -0.01, extent -11.002,-11.002 11.002,11.002

## TQFP176 20x20_N [mm] "176脚，体宽：20x20mm, 脚距：0.4mm"
height 1.6
pads (176):
  oval 0.23x1.6 smd: 1(-8.6,-10.654) 2(-8.2,-10.654) 3(-7.8,-10.654) 4(-7.4,-10.654) 5(-7,-10.654) 6(-6.6,-10.654) 7(-6.2,-10.654) 8(-5.8,-10.654) 9(-5.4,-10.654) 10(-5,-10.654) 11(-4.6,-10.654) 12(-4.2,-10.654) 13(-3.8,-10.654) 14(-3.4,-10.654) 15(-3,-10.654) 16(-2.6,-10.654) 17(-2.2,-10.654) 18(-1.8,-10.654) 19(-1.4,-10.654) 20(-1,-10.654) 21(-0.6,-10.654) 22(-0.2,-10.654) 23(0.2,-10.654) 24(0.6,-10.654) 25(1,-10.654) 26(1.4,-10.654) 27(1.8,-10.654) 28(2.2,-10.654) 29(2.6,-10.654) 30(3,-10.654) 31(3.4,-10.654) 32(3.8,-10.654) 33(4.2,-10.654) 34(4.6,-10.654) 35(5,-10.654) 36(5.4,-10.654) 37(5.8,-10.654) 38(6.2,-10.654) 39(6.6,-10.654) 40(7,-10.654) 41(7.4,-10.654) 42(7.8,-10.654) 43(8.2,-10.654) 44(8.6,-10.654) 89(8.6,10.654) 90(8.2,10.654) 91(7.8,10.654) 92(7.4,10.654) 93(7,10.654) 94(6.6,10.654) 95(6.2,10.654) 96(5.8,10.654) 97(5.4,10.654) 98(5,10.654) 99(4.6,10.654) 100(4.2,10.654) 101(3.8,10.654) 102(3.4,10.654) 103(3,10.654) 104(2.6,10.654) 105(2.2,10.654) 106(1.8,10.654) 107(1.4,10.654) 108(1,10.654) 109(0.6,10.654) 110(0.2,10.654) 111(-0.2,10.654) 112(-0.6,10.654) 113(-1,10.654) 114(-1.4,10.654) 115(-1.8,10.654) 116(-2.2,10.654) 117(-2.6,10.654) 118(-3,10.654) 119(-3.4,10.654) 120(-3.8,10.654) 121(-4.2,10.654) 122(-4.6,10.654) 123(-5,10.654) 124(-5.4,10.654) 125(-5.8,10.654) 126(-6.2,10.654) 127(-6.6,10.654) 128(-7,10.654) 129(-7.4,10.654) 130(-7.8,10.654) 131(-8.2,10.654) 132(-8.6,10.654)
  oval 1.6x0.23 smd: 45(10.654,-8.6) 46(10.654,-8.2) 47(10.654,-7.8) 48(10.654,-7.4) 49(10.654,-7) 50(10.654,-6.6) 51(10.654,-6.2) 52(10.654,-5.8) 53(10.654,-5.4) 54(10.654,-5) 55(10.654,-4.6) 56(10.654,-4.2) 57(10.654,-3.8) 58(10.654,-3.4) 59(10.654,-3) 60(10.654,-2.6) 61(10.654,-2.2) 62(10.654,-1.8) 63(10.654,-1.4) 64(10.654,-1) 65(10.654,-0.6) 66(10.654,-0.2) 67(10.654,0.2) 68(10.654,0.6) 69(10.654,1) 70(10.654,1.4) 71(10.654,1.8) 72(10.654,2.2) 73(10.654,2.6) 74(10.654,3) 75(10.654,3.4) 76(10.654,3.8) 77(10.654,4.2) 78(10.654,4.6) 79(10.654,5) 80(10.654,5.4) 81(10.654,5.8) 82(10.654,6.2) 83(10.654,6.6) 84(10.654,7) 85(10.654,7.4) 86(10.654,7.8) 87(10.654,8.2) 88(10.654,8.6) 133(-10.654,8.6) 134(-10.654,8.2) 135(-10.654,7.8) 136(-10.654,7.4) 137(-10.654,7) 138(-10.654,6.6) 139(-10.654,6.2) 140(-10.654,5.8) 141(-10.654,5.4) 142(-10.654,5) 143(-10.654,4.6) 144(-10.654,4.2) 145(-10.654,3.8) 146(-10.654,3.4) 147(-10.654,3) 148(-10.654,2.6) 149(-10.654,2.2) 150(-10.654,1.8) 151(-10.654,1.4) 152(-10.654,1) 153(-10.654,0.6) 154(-10.654,0.2) 155(-10.654,-0.2) 156(-10.654,-0.6) 157(-10.654,-1) 158(-10.654,-1.4) 159(-10.654,-1.8) 160(-10.654,-2.2) 161(-10.654,-2.6) 162(-10.654,-3) 163(-10.654,-3.4) 164(-10.654,-3.8) 165(-10.654,-4.2) 166(-10.654,-4.6) 167(-10.654,-5) 168(-10.654,-5.4) 169(-10.654,-5.8) 170(-10.654,-6.2) 171(-10.654,-6.6) 172(-10.654,-7) 173(-10.654,-7.4) 174(-10.654,-7.8) 175(-10.654,-8.2) 176(-10.654,-8.6)
Top Overlay:
  circle w0.508: c-9.525,-10.922 r0.127
  circle w0.254: c-7.112,-7.112 r1.016
  lines w0.254: -8.89,-8.89 8.89,-8.89 8.89,8.89 -8.89,8.89 -8.89,-8.89
Mechanical 13:
  circle w0.1: c-8.894,-8.894 r0.5
  lines w0.15: -10,-10 -10,10 10,10 10,-10 -10,-10
Mechanical 15:
  circle w0.05: c0,0 r0.35
  lines w0.05: -0.5,0 0.5,0 ; 0,-0.5 0,0.5
  lines w0.15: -11.684,-11.684 11.684,-11.684 11.684,11.684 -11.684,11.684 -11.684,-11.684
3D body: height 1.05, standoff -0.01, extent -11.002,-11.002 11.002,11.002